# Altium schematic symbol library Capacitor.SchLib: 11 symbols
Pins are listed as number, name and electrical type; pins without a type are passive.

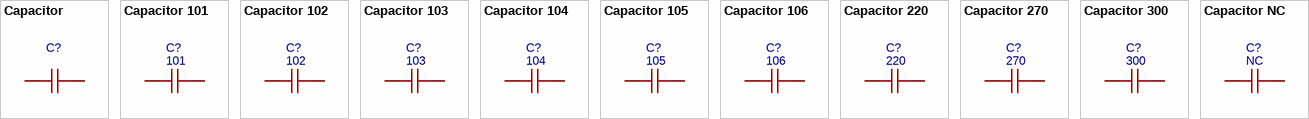
[diagram p0: symbols Capacitor to Capacitor NC]

## Capacitor
designator C?
电容
footprint C0201
footprint C0402
footprint C0603
footprint C0805
footprint C1206
footprint C_RAD-0.1
footprint C_RAD-0.2
footprint C_RAD-0.3
pins: 1, 2

## Capacitor 101
designator C?, comment 101
电容
footprint C0201
footprint C0402
footprint C0603
footprint C0805
footprint C1206
footprint C_RAD-0.1
footprint C_RAD-0.2
footprint C_RAD-0.3
pins: 1, 2

## Capacitor 102
designator C?, comment 102
电容
footprint C0201
footprint C0402
footprint C0603
footprint C0805
footprint C1206
footprint C_RAD-0.1
footprint C_RAD-0.2
footprint C_RAD-0.3
pins: 1, 2

## Capacitor 103
designator C?, comment 103
电容
footprint C0201
footprint C0402
footprint C0603
footprint C0805
footprint C1206
footprint C_RAD-0.1
footprint C_RAD-0.2
footprint C_RAD-0.3
pins: 1, 2

## Capacitor 104
designator C?, comment 104
电容
footprint C0201
footprint C0402
footprint C0603
footprint C0805
footprint C1206
footprint C_RAD-0.1
footprint C_RAD-0.2
footprint C_RAD-0.3
pins: 1, 2

## Capacitor 105
designator C?, comment 105
电容
footprint C0201
footprint C0402
footprint C0603
footprint C0805
footprint C1206
footprint C_RAD-0.1
footprint C_RAD-0.2
footprint C_RAD-0.3
pins: 1, 2

## Capacitor 106
designator C?, comment 106
电容
footprint C0201
footprint C0402
footprint C0603
footprint C0805
footprint C1206
footprint C_RAD-0.1
footprint C_RAD-0.2
footprint C_RAD-0.3
pins: 1, 2

## Capacitor 220
designator C?, comment 220
电容
footprint C0201
footprint C0402
footprint C0603
footprint C0805
footprint C1206
footprint C_RAD-0.1
footprint C_RAD-0.2
footprint C_RAD-0.3
pins: 1, 2

## Capacitor 270
designator C?, comment 270
电容
footprint C0201
footprint C0402
footprint C0603
footprint C0805
footprint C1206
footprint C_RAD-0.1
footprint C_RAD-0.2
footprint C_RAD-0.3
pins: 1, 2

## Capacitor 300
designator C?, comment 300
电容
footprint C0201
footprint C0402
footprint C0603
footprint C0805
footprint C1206
footprint C_RAD-0.1
footprint C_RAD-0.2
footprint C_RAD-0.3
pins: 1, 2

## Capacitor NC
designator C?, comment NC
电容（不连接）
footprint C0201
footprint C0402
footprint C0603
footprint C0805
footprint C1206
footprint C_RAD-0.1
footprint C_RAD-0.2
footprint C_RAD-0.3
pins: 1, 2